# Altium schematic symbol library TPSM843521RCJR.SchLib: 1 symbol
Pins are listed as number, name and electrical type; pins without a type are passive.

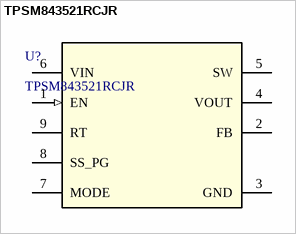
[diagram p0: symbol TPSM843521RCJR]

## TPSM843521RCJR
designator U?
3.8V to 18V input, 5A, 200kHz to 2.2MHz synchronous step-down power module 9-QFN-FCMOD -40 to 125; Manufacturer_Name: Texas Instruments; TYPE: TYPE; RefDes: RefDes; Copyright: Copyright (C) 2025 Ultra Librarian. All rights reserved.; Manufacturer_Part_Number: TPSM843521RCJR
footprint RCJ0009A-MFG
pins: 1 EN (in), 2 FB, 3 GND (power), 4 VOUT (power), 5 SW (power), 6 VIN (power), 7 MODE, 8 SS_PG, 9 RT